# EAGLE library part LM3481 (library LARS_409_DC-DC)
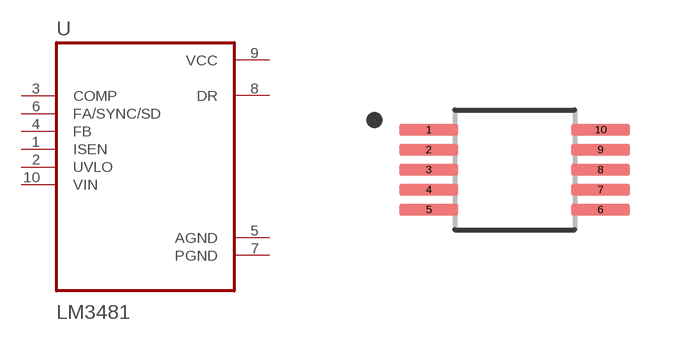
[diagram p0: symbol with the pads of VSSOP(10); footprint VSSOP(10)]

Designator prefix U

## LM3481  [VSSOP(10)]
1  ISEN  in
2  UVLO  in
3  COMP  in
4  FB  in
5  AGND  pwr
6  FA/SYNC/SD  in
7  PGND  pwr
8  DR  out
9  VCC  pwr
10  VIN  in

## Footprint VSSOP(10) (pad centres in mm)
10-SOP, 0.50 mm pitch, 4.90 mm span, 3.00 X 3.00 X 1.10 mm body 10-pin SOP package with 0.50 mm pitch, 4.90 mm span with body size 3.00 X 3.00 X 1.10 mm
smd 1.47 x 0.28: 1 -2.15,1; 2 -2.15,0.5; 3 -2.15,0; 4 -2.15,-0.5; 5 -2.15,-1; 6 2.15,-1; 7 2.15,-0.5; 8 2.15,0; 9 2.15,0.5; 10 2.15,1